# EAGLE library part MC1.5/6 (library jt-con-phoenix-3.81)
PHOENIX
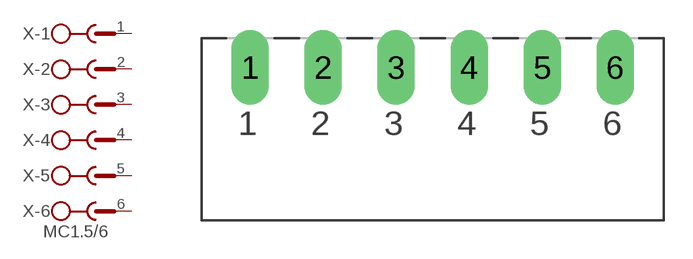
[diagram p0: symbol with the pads of MC1.5/6-G-3.81; footprint MC1.5/6-G-3.81]

Designator prefix X; gates -1=SK -2=SK -3=SK -4=SK -5=SK -6=SKV

## MC1.5/6  [MC1.5/6-G-3.81]
1  -1:1  pas
2  -2:1  pas
3  -3:1  pas
4  -4:1  pas
5  -5:1  pas
6  -6:1  pas

## Footprint MC1.5/6-G-3.81 (pad centres in mm)
PHOENIX
drill 1.3 long: 1 -9.525,8; 2 -5.715,8; 3 -1.905,8; 4 1.905,8; 5 5.715,8; 6 9.525,8